# Altium integrated library TI Data Converters Analog to Digital Converter.IntLib: 2197 symbols (part 75 of 168)
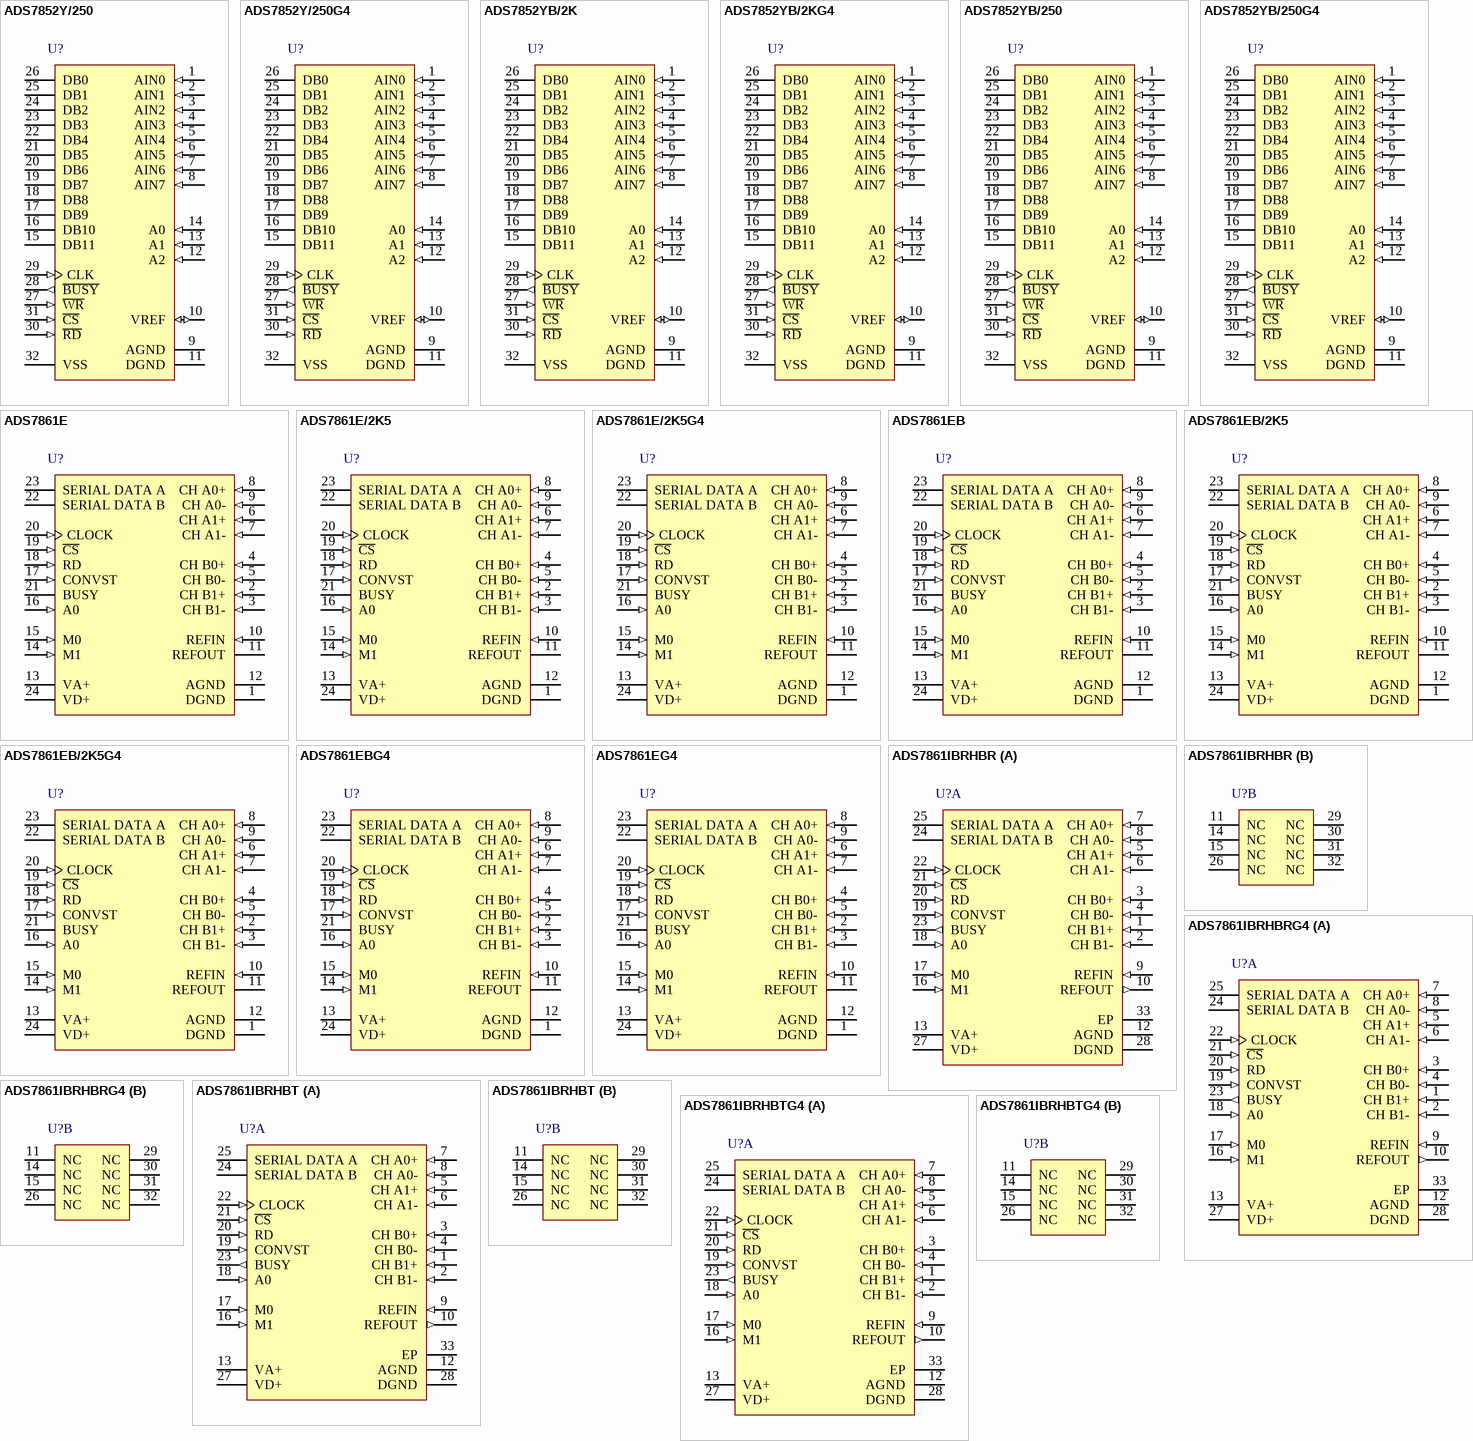
[diagram p200: symbols ADS7852Y/250 to ADS7861IBRHBTG4]

## ADS7861EB
designator U?
Dual, 500 kHz, 12-Bit, 4 Channel, Simultaneous Sampling ADC, -40 to 125 degC, 24-pin SOP (DBQ24), Green (RoHS & no Sb/Br); Manufacturer: Texas Instruments; PartNumber: ADS7861EB; # Input Channels: 4; Analog Voltage AV/DD(Max)(V): 5.25; Analog Voltage AV/DD(Min)(V): 4.75; Architecture: SAR; INL(Max)(+/-LSB): 1; Interface: Serial SPI; Resolution(Bits): 12; Sample Rate (max)(SPS): 500k; SFDR(dB): 75; SINAD(dB): 70; SubFamily: Precision ADC (<=10MSPS); DatasheetVersion: SBAS110D; PackageVersion: 4073301-4/H, 10/2008; PackageReference: DBQ24; PackageDescription: 24-Pin Plastic Small-Outline, Body 8.65 x 3.90 mm, Pitch 0.635 mm; Supplier 1: Digi-Key; Supplier Part Number 1: ADS7852Y/2K-ND; Supplier 2: Newark; Supplier Part Number 2: 74C7186; Supplier 3: Mouser; Supplier Part Number 3: 595-ADS7852Y/2K; Digital Supply(Max)(V): 5.25; Digital Supply(Min)(V): 4.75; Eco-Plan: Green (RoHS & no Sb/Br); Mounting Technology: Surface Mount; Code_JEDEC: MO-137; ComponentLink1Description: Manufacturer URL; ComponentLink1URL: http://www.ti.com/; ComponentLink2Description: Datasheet; ComponentLink2URL: http://www.ti.com/general/docs/lit/getliterature.tsp?genericPartNumber=ADS7861&fileType=pdf; ComponentLink3Description: Package Specification; ComponentLink3URL: http://www.ti.com/litv/pdf/mpds211a
footprint TI-DBQ24_N (SOP, 24-Leads, Body 8.65x6mm, Pitch 0.635mm, IPC Medium Density)
footprint TI-DBQ24_L (SOP, 24-Leads, Body 8.65x6mm, Pitch 0.635mm, IPC High Density)
footprint TI-DBQ24_M (SOP, 24-Leads, Body 8.65x6mm, Pitch 0.635mm, IPC Low Density)
pins: 1 DGND (power) "Digital Ground. Connect directly to analog ground (pin 12).", 2 CH B1+ (in) "Noninverting Input Channel B1", 3 CH B1- (in) "Inverting Input Channel B1", 4 CH B0+ (in) "Noninverting Input Channel B0", 5 CH B0- (in) "Inverting Input Channel B0", 6 CH A1+ (in) "Noninverting Input Channel A1", 7 CH A1- (in) "Inverting Input Channel A1", 8 CH A0+ (in) "Noninverting Input Channel A0", 9 CH A0- (in) "Inverting Input Channel A0", 10 REFIN (in) "Reference Input", 11 REFOUT (hiz) "2.5V Reference Output", 12 AGND (power) "Analog Ground. Connect directly to digital ground (pin 1).", 13 VA+ (power) "Analog Power Supply, +5VDC. Connect directly to digital power supply (pin 24). Decouple to analog ground with a 0.1uF ceramic capacitor and a 10uF tantalum capacitor.", 14 M1 (in) "Selects between the Serial Outputs. When M1 is LOW, both Serial Output A and Serial Output B are selected for data transfer. When M1 is HIGH, Serial output A is configured for both Channel A data and Channel B data; Serial (See Datasheet)", 15 M0 (in) "Selects between two-channel and four-channel operation. When M0 is LOW, two-channel operation is selected and operates in conjunction with A0. When A0 is HIGH, Channel A1 and Channel B1 are being converted. When A0 is LOW, (See Datasheet)", 16 A0 (in) "A0 operates in conjunction with M0. With M0 LOW and A0 HIGH, Channel A1 and Channel B1 are converted. With M0 LOW and A0 LOW, Channel A0 and Channel B0 are converted.", 17 CONVST (in) "Convert Start. When CONVST switches from LOW to HIGH, the device switches from the sample to hold mode, independent of the status of the external clock.", 18 RD (in) "Synchronization Pulse for the Serial Output.", 19 ~{CS} (in) "Chip Select. When LOW, the Serial Output A and Serial Output B outputs are active; when HIGH, the serial outputs are tri-stated.", 20 CLOCK (in) "An external CMOS-compatible clock can be applied to the CLOCK input to synchronize the conversion process to an external source. The CLOCK pin controls the sampling rate by the equation: CLOCK = 16 * fSAMPLE.", 21 BUSY (hiz) "BUSY goes HIGH during a conversion and returns LOW after the third LSB has been transmitted on either the Serial A or Serial B output pin.", 22 SERIAL DATA B (hiz) "The Serial Output data word is comprised of channel information and 12 bits of data. In operation, data is valid on the falling edge of DCLOCK for 16 edges after the rising edge of RD.", 23 SERIAL DATA A (hiz) "The Serial Output data word is comprised of channel information and 12 bits of data. In operation, data is valid on the falling edge of DCLOCK for 16 edges after the rising edge of RD. When M1 is HIGH, both Channel A data (See Datasheet)", 24 VD+ (power) "Digital Power Supply, +5VDC. Connect directly to pin 13. Must be =< +VA."

## ADS7861EB/2K5
designator U?
Dual, 500 kHz, 12-Bit, 4 Channel, Simultaneous Sampling ADC, -40 to 125 degC, 24-pin SOP (DBQ24), Green (RoHS & no Sb/Br); Manufacturer: Texas Instruments; PartNumber: ADS7861EB/2K5; # Input Channels: 4; Analog Voltage AV/DD(Max)(V): 5.25; Analog Voltage AV/DD(Min)(V): 4.75; Architecture: SAR; INL(Max)(+/-LSB): 1; Interface: Serial SPI; Resolution(Bits): 12; Sample Rate (max)(SPS): 500k; SFDR(dB): 75; SINAD(dB): 70; SubFamily: Precision ADC (<=10MSPS); DatasheetVersion: SBAS110D; PackageVersion: 4073301-4/H, 10/2008; PackageReference: DBQ24; PackageDescription: 24-Pin Plastic Small-Outline, Body 8.65 x 3.90 mm, Pitch 0.635 mm; Supplier 1: Digi-Key; Supplier Part Number 1: ADS7852Y/2KG4-ND; Supplier 2: Newark; Supplier Part Number 2: 73K7088; Supplier 3: Mouser; Supplier Part Number 3: 595-ADS7852Y/2KG4; Digital Supply(Max)(V): 5.25; Digital Supply(Min)(V): 4.75; Eco-Plan: Green (RoHS & no Sb/Br); Mounting Technology: Surface Mount; Code_JEDEC: MO-137; ComponentLink1Description: Manufacturer URL; ComponentLink1URL: http://www.ti.com/; ComponentLink2Description: Datasheet; ComponentLink2URL: http://www.ti.com/general/docs/lit/getliterature.tsp?genericPartNumber=ADS7861&fileType=pdf; ComponentLink3Description: Package Specification; ComponentLink3URL: http://www.ti.com/litv/pdf/mpds211a
footprint TI-DBQ24_N (SOP, 24-Leads, Body 8.65x6mm, Pitch 0.635mm, IPC Medium Density)
footprint TI-DBQ24_L (SOP, 24-Leads, Body 8.65x6mm, Pitch 0.635mm, IPC High Density)
footprint TI-DBQ24_M (SOP, 24-Leads, Body 8.65x6mm, Pitch 0.635mm, IPC Low Density)
pins: 1 DGND (power) "Digital Ground. Connect directly to analog ground (pin 12).", 2 CH B1+ (in) "Noninverting Input Channel B1", 3 CH B1- (in) "Inverting Input Channel B1", 4 CH B0+ (in) "Noninverting Input Channel B0", 5 CH B0- (in) "Inverting Input Channel B0", 6 CH A1+ (in) "Noninverting Input Channel A1", 7 CH A1- (in) "Inverting Input Channel A1", 8 CH A0+ (in) "Noninverting Input Channel A0", 9 CH A0- (in) "Inverting Input Channel A0", 10 REFIN (in) "Reference Input", 11 REFOUT (hiz) "2.5V Reference Output", 12 AGND (power) "Analog Ground. Connect directly to digital ground (pin 1).", 13 VA+ (power) "Analog Power Supply, +5VDC. Connect directly to digital power supply (pin 24). Decouple to analog ground with a 0.1uF ceramic capacitor and a 10uF tantalum capacitor.", 14 M1 (in) "Selects between the Serial Outputs. When M1 is LOW, both Serial Output A and Serial Output B are selected for data transfer. When M1 is HIGH, Serial output A is configured for both Channel A data and Channel B data; Serial (See Datasheet)", 15 M0 (in) "Selects between two-channel and four-channel operation. When M0 is LOW, two-channel operation is selected and operates in conjunction with A0. When A0 is HIGH, Channel A1 and Channel B1 are being converted. When A0 is LOW, (See Datasheet)", 16 A0 (in) "A0 operates in conjunction with M0. With M0 LOW and A0 HIGH, Channel A1 and Channel B1 are converted. With M0 LOW and A0 LOW, Channel A0 and Channel B0 are converted.", 17 CONVST (in) "Convert Start. When CONVST switches from LOW to HIGH, the device switches from the sample to hold mode, independent of the status of the external clock.", 18 RD (in) "Synchronization Pulse for the Serial Output.", 19 ~{CS} (in) "Chip Select. When LOW, the Serial Output A and Serial Output B outputs are active; when HIGH, the serial outputs are tri-stated.", 20 CLOCK (in) "An external CMOS-compatible clock can be applied to the CLOCK input to synchronize the conversion process to an external source. The CLOCK pin controls the sampling rate by the equation: CLOCK = 16 * fSAMPLE.", 21 BUSY (hiz) "BUSY goes HIGH during a conversion and returns LOW after the third LSB has been transmitted on either the Serial A or Serial B output pin.", 22 SERIAL DATA B (hiz) "The Serial Output data word is comprised of channel information and 12 bits of data. In operation, data is valid on the falling edge of DCLOCK for 16 edges after the rising edge of RD.", 23 SERIAL DATA A (hiz) "The Serial Output data word is comprised of channel information and 12 bits of data. In operation, data is valid on the falling edge of DCLOCK for 16 edges after the rising edge of RD. When M1 is HIGH, both Channel A data (See Datasheet)", 24 VD+ (power) "Digital Power Supply, +5VDC. Connect directly to pin 13. Must be =< +VA."

## ADS7861EB/2K5G4
designator U?
Dual, 500 kHz, 12-Bit, 4 Channel, Simultaneous Sampling ADC, -40 to 125 degC, 24-pin SOP (DBQ24), Green (RoHS & no Sb/Br); Manufacturer: Texas Instruments; PartNumber: ADS7861EB/2K5G4; # Input Channels: 4; Analog Voltage AV/DD(Max)(V): 5.25; Analog Voltage AV/DD(Min)(V): 4.75; Architecture: SAR; INL(Max)(+/-LSB): 1; Interface: Serial SPI; Resolution(Bits): 12; Sample Rate (max)(SPS): 500k; SFDR(dB): 75; SINAD(dB): 70; SubFamily: Precision ADC (<=10MSPS); DatasheetVersion: SBAS110D; PackageVersion: 4073301-4/H, 10/2008; PackageReference: DBQ24; PackageDescription: 24-Pin Plastic Small-Outline, Body 8.65 x 3.90 mm, Pitch 0.635 mm; Supplier 1: Digi-Key; Supplier Part Number 1: ADS7852YBTR-ND; Supplier 2: Digi-Key; Supplier Part Number 2: ADS7852YBCT-ND; Supplier 3: Digi-Key; Supplier Part Number 3: ADS7852YBDKR-ND; Supplier 4: Farnell; Supplier Part Number 4: 1295960; Supplier 5: Newark; Supplier Part Number 5: 74C7188; Supplier 6: Mouser; Supplier Part Number 6: 595-ADS7852YB/250; Digital Supply(Max)(V): 5.25; Digital Supply(Min)(V): 4.75; Eco-Plan: Green (RoHS & no Sb/Br); Mounting Technology: Surface Mount; Code_JEDEC: MO-137; ComponentLink1Description: Manufacturer URL; ComponentLink1URL: http://www.ti.com/; ComponentLink2Description: Datasheet; ComponentLink2URL: http://www.ti.com/general/docs/lit/getliterature.tsp?genericPartNumber=ADS7861&fileType=pdf; ComponentLink3Description: Package Specification; ComponentLink3URL: http://www.ti.com/litv/pdf/mpds211a
footprint TI-DBQ24_N (SOP, 24-Leads, Body 8.65x6mm, Pitch 0.635mm, IPC Medium Density)
footprint TI-DBQ24_L (SOP, 24-Leads, Body 8.65x6mm, Pitch 0.635mm, IPC High Density)
footprint TI-DBQ24_M (SOP, 24-Leads, Body 8.65x6mm, Pitch 0.635mm, IPC Low Density)
pins: 1 DGND (power) "Digital Ground. Connect directly to analog ground (pin 12).", 2 CH B1+ (in) "Noninverting Input Channel B1", 3 CH B1- (in) "Inverting Input Channel B1", 4 CH B0+ (in) "Noninverting Input Channel B0", 5 CH B0- (in) "Inverting Input Channel B0", 6 CH A1+ (in) "Noninverting Input Channel A1", 7 CH A1- (in) "Inverting Input Channel A1", 8 CH A0+ (in) "Noninverting Input Channel A0", 9 CH A0- (in) "Inverting Input Channel A0", 10 REFIN (in) "Reference Input", 11 REFOUT (hiz) "2.5V Reference Output", 12 AGND (power) "Analog Ground. Connect directly to digital ground (pin 1).", 13 VA+ (power) "Analog Power Supply, +5VDC. Connect directly to digital power supply (pin 24). Decouple to analog ground with a 0.1uF ceramic capacitor and a 10uF tantalum capacitor.", 14 M1 (in) "Selects between the Serial Outputs. When M1 is LOW, both Serial Output A and Serial Output B are selected for data transfer. When M1 is HIGH, Serial output A is configured for both Channel A data and Channel B data; Serial (See Datasheet)", 15 M0 (in) "Selects between two-channel and four-channel operation. When M0 is LOW, two-channel operation is selected and operates in conjunction with A0. When A0 is HIGH, Channel A1 and Channel B1 are being converted. When A0 is LOW, (See Datasheet)", 16 A0 (in) "A0 operates in conjunction with M0. With M0 LOW and A0 HIGH, Channel A1 and Channel B1 are converted. With M0 LOW and A0 LOW, Channel A0 and Channel B0 are converted.", 17 CONVST (in) "Convert Start. When CONVST switches from LOW to HIGH, the device switches from the sample to hold mode, independent of the status of the external clock.", 18 RD (in) "Synchronization Pulse for the Serial Output.", 19 ~{CS} (in) "Chip Select. When LOW, the Serial Output A and Serial Output B outputs are active; when HIGH, the serial outputs are tri-stated.", 20 CLOCK (in) "An external CMOS-compatible clock can be applied to the CLOCK input to synchronize the conversion process to an external source. The CLOCK pin controls the sampling rate by the equation: CLOCK = 16 * fSAMPLE.", 21 BUSY (hiz) "BUSY goes HIGH during a conversion and returns LOW after the third LSB has been transmitted on either the Serial A or Serial B output pin.", 22 SERIAL DATA B (hiz) "The Serial Output data word is comprised of channel information and 12 bits of data. In operation, data is valid on the falling edge of DCLOCK for 16 edges after the rising edge of RD.", 23 SERIAL DATA A (hiz) "The Serial Output data word is comprised of channel information and 12 bits of data. In operation, data is valid on the falling edge of DCLOCK for 16 edges after the rising edge of RD. When M1 is HIGH, both Channel A data (See Datasheet)", 24 VD+ (power) "Digital Power Supply, +5VDC. Connect directly to pin 13. Must be =< +VA."

## ADS7861EBG4
designator U?
Dual, 500 kHz, 12-Bit, 4 Channel, Simultaneous Sampling ADC, -40 to 125 degC, 24-pin SOP (DBQ24), Green (RoHS & no Sb/Br); Manufacturer: Texas Instruments; PartNumber: ADS7861EBG4; # Input Channels: 4; Analog Voltage AV/DD(Max)(V): 5.25; Analog Voltage AV/DD(Min)(V): 4.75; Architecture: SAR; INL(Max)(+/-LSB): 1; Interface: Serial SPI; Resolution(Bits): 12; Sample Rate (max)(SPS): 500k; SFDR(dB): 75; SINAD(dB): 70; SubFamily: Precision ADC (<=10MSPS); DatasheetVersion: SBAS110D; PackageVersion: 4073301-4/H, 10/2008; PackageReference: DBQ24; PackageDescription: 24-Pin Plastic Small-Outline, Body 8.65 x 3.90 mm, Pitch 0.635 mm; Supplier 1: Digi-Key; Supplier Part Number 1: ADS7852YB/250G4-ND; Supplier 2: Mouser; Supplier Part Number 2: 595-ADS7852YB/250G4; Digital Supply(Max)(V): 5.25; Digital Supply(Min)(V): 4.75; Eco-Plan: Green (RoHS & no Sb/Br); Mounting Technology: Surface Mount; Code_JEDEC: MO-137; ComponentLink1Description: Manufacturer URL; ComponentLink1URL: http://www.ti.com/; ComponentLink2Description: Datasheet; ComponentLink2URL: http://www.ti.com/general/docs/lit/getliterature.tsp?genericPartNumber=ADS7861&fileType=pdf; ComponentLink3Description: Package Specification; ComponentLink3URL: http://www.ti.com/litv/pdf/mpds211a
footprint TI-DBQ24_N (SOP, 24-Leads, Body 8.65x6mm, Pitch 0.635mm, IPC Medium Density)
footprint TI-DBQ24_L (SOP, 24-Leads, Body 8.65x6mm, Pitch 0.635mm, IPC High Density)
footprint TI-DBQ24_M (SOP, 24-Leads, Body 8.65x6mm, Pitch 0.635mm, IPC Low Density)
pins: 1 DGND (power) "Digital Ground. Connect directly to analog ground (pin 12).", 2 CH B1+ (in) "Noninverting Input Channel B1", 3 CH B1- (in) "Inverting Input Channel B1", 4 CH B0+ (in) "Noninverting Input Channel B0", 5 CH B0- (in) "Inverting Input Channel B0", 6 CH A1+ (in) "Noninverting Input Channel A1", 7 CH A1- (in) "Inverting Input Channel A1", 8 CH A0+ (in) "Noninverting Input Channel A0", 9 CH A0- (in) "Inverting Input Channel A0", 10 REFIN (in) "Reference Input", 11 REFOUT (hiz) "2.5V Reference Output", 12 AGND (power) "Analog Ground. Connect directly to digital ground (pin 1).", 13 VA+ (power) "Analog Power Supply, +5VDC. Connect directly to digital power supply (pin 24). Decouple to analog ground with a 0.1uF ceramic capacitor and a 10uF tantalum capacitor.", 14 M1 (in) "Selects between the Serial Outputs. When M1 is LOW, both Serial Output A and Serial Output B are selected for data transfer. When M1 is HIGH, Serial output A is configured for both Channel A data and Channel B data; Serial (See Datasheet)", 15 M0 (in) "Selects between two-channel and four-channel operation. When M0 is LOW, two-channel operation is selected and operates in conjunction with A0. When A0 is HIGH, Channel A1 and Channel B1 are being converted. When A0 is LOW, (See Datasheet)", 16 A0 (in) "A0 operates in conjunction with M0. With M0 LOW and A0 HIGH, Channel A1 and Channel B1 are converted. With M0 LOW and A0 LOW, Channel A0 and Channel B0 are converted.", 17 CONVST (in) "Convert Start. When CONVST switches from LOW to HIGH, the device switches from the sample to hold mode, independent of the status of the external clock.", 18 RD (in) "Synchronization Pulse for the Serial Output.", 19 ~{CS} (in) "Chip Select. When LOW, the Serial Output A and Serial Output B outputs are active; when HIGH, the serial outputs are tri-stated.", 20 CLOCK (in) "An external CMOS-compatible clock can be applied to the CLOCK input to synchronize the conversion process to an external source. The CLOCK pin controls the sampling rate by the equation: CLOCK = 16 * fSAMPLE.", 21 BUSY (hiz) "BUSY goes HIGH during a conversion and returns LOW after the third LSB has been transmitted on either the Serial A or Serial B output pin.", 22 SERIAL DATA B (hiz) "The Serial Output data word is comprised of channel information and 12 bits of data. In operation, data is valid on the falling edge of DCLOCK for 16 edges after the rising edge of RD.", 23 SERIAL DATA A (hiz) "The Serial Output data word is comprised of channel information and 12 bits of data. In operation, data is valid on the falling edge of DCLOCK for 16 edges after the rising edge of RD. When M1 is HIGH, both Channel A data (See Datasheet)", 24 VD+ (power) "Digital Power Supply, +5VDC. Connect directly to pin 13. Must be =< +VA."

## ADS7861EG4
designator U?
Dual, 500 kHz, 12-Bit, 4 Channel, Simultaneous Sampling ADC, -40 to 125 degC, 24-pin SOP (DBQ24), Green (RoHS & no Sb/Br); Manufacturer: Texas Instruments; PartNumber: ADS7861EG4; # Input Channels: 4; Analog Voltage AV/DD(Max)(V): 5.25; Analog Voltage AV/DD(Min)(V): 4.75; Architecture: SAR; INL(Max)(+/-LSB): 2; Interface: Serial SPI; Resolution(Bits): 12; Sample Rate (max)(SPS): 500k; SFDR(dB): 71; SINAD(dB): 70; SubFamily: Precision ADC (<=10MSPS); DatasheetVersion: SBAS110D; PackageVersion: 4073301-4/H, 10/2008; PackageReference: DBQ24; PackageDescription: 24-Pin Plastic Small-Outline, Body 8.65 x 3.90 mm, Pitch 0.635 mm; Supplier 1: Digi-Key; Supplier Part Number 1: ADS7852YB/2K-ND; Supplier 2: Mouser; Supplier Part Number 2: 595-ADS7852YB/2K; Digital Supply(Max)(V): 5.25; Digital Supply(Min)(V): 4.75; Eco-Plan: Green (RoHS & no Sb/Br); Mounting Technology: Surface Mount; Code_JEDEC: MO-137; ComponentLink1Description: Manufacturer URL; ComponentLink1URL: http://www.ti.com/; ComponentLink2Description: Datasheet; ComponentLink2URL: http://www.ti.com/general/docs/lit/getliterature.tsp?genericPartNumber=ADS7861&fileType=pdf; ComponentLink3Description: Package Specification; ComponentLink3URL: http://www.ti.com/litv/pdf/mpds211a
footprint TI-DBQ24_N (SOP, 24-Leads, Body 8.65x6mm, Pitch 0.635mm, IPC Medium Density)
footprint TI-DBQ24_L (SOP, 24-Leads, Body 8.65x6mm, Pitch 0.635mm, IPC High Density)
footprint TI-DBQ24_M (SOP, 24-Leads, Body 8.65x6mm, Pitch 0.635mm, IPC Low Density)
pins: 1 DGND (power) "Digital Ground. Connect directly to analog ground (pin 12).", 2 CH B1+ (in) "Noninverting Input Channel B1", 3 CH B1- (in) "Inverting Input Channel B1", 4 CH B0+ (in) "Noninverting Input Channel B0", 5 CH B0- (in) "Inverting Input Channel B0", 6 CH A1+ (in) "Noninverting Input Channel A1", 7 CH A1- (in) "Inverting Input Channel A1", 8 CH A0+ (in) "Noninverting Input Channel A0", 9 CH A0- (in) "Inverting Input Channel A0", 10 REFIN (in) "Reference Input", 11 REFOUT (hiz) "2.5V Reference Output", 12 AGND (power) "Analog Ground. Connect directly to digital ground (pin 1).", 13 VA+ (power) "Analog Power Supply, +5VDC. Connect directly to digital power supply (pin 24). Decouple to analog ground with a 0.1uF ceramic capacitor and a 10uF tantalum capacitor.", 14 M1 (in) "Selects between the Serial Outputs. When M1 is LOW, both Serial Output A and Serial Output B are selected for data transfer. When M1 is HIGH, Serial output A is configured for both Channel A data and Channel B data; Serial (See Datasheet)", 15 M0 (in) "Selects between two-channel and four-channel operation. When M0 is LOW, two-channel operation is selected and operates in conjunction with A0. When A0 is HIGH, Channel A1 and Channel B1 are being converted. When A0 is LOW, (See Datasheet)", 16 A0 (in) "A0 operates in conjunction with M0. With M0 LOW and A0 HIGH, Channel A1 and Channel B1 are converted. With M0 LOW and A0 LOW, Channel A0 and Channel B0 are converted.", 17 CONVST (in) "Convert Start. When CONVST switches from LOW to HIGH, the device switches from the sample to hold mode, independent of the status of the external clock.", 18 RD (in) "Synchronization Pulse for the Serial Output.", 19 ~{CS} (in) "Chip Select. When LOW, the Serial Output A and Serial Output B outputs are active; when HIGH, the serial outputs are tri-stated.", 20 CLOCK (in) "An external CMOS-compatible clock can be applied to the CLOCK input to synchronize the conversion process to an external source. The CLOCK pin controls the sampling rate by the equation: CLOCK = 16 * fSAMPLE.", 21 BUSY (hiz) "BUSY goes HIGH during a conversion and returns LOW after the third LSB has been transmitted on either the Serial A or Serial B output pin.", 22 SERIAL DATA B (hiz) "The Serial Output data word is comprised of channel information and 12 bits of data. In operation, data is valid on the falling edge of DCLOCK for 16 edges after the rising edge of RD.", 23 SERIAL DATA A (hiz) "The Serial Output data word is comprised of channel information and 12 bits of data. In operation, data is valid on the falling edge of DCLOCK for 16 edges after the rising edge of RD. When M1 is HIGH, both Channel A data (See Datasheet)", 24 VD+ (power) "Digital Power Supply, +5VDC. Connect directly to pin 13. Must be =< +VA."

## ADS7861IBRHBR
designator U?
Dual, 500 kHz, 12-Bit, 4 Channel, Simultaneous Sampling ADC, -40 to 125 degC, 32-pin QFN (RHB32), Green (RoHS & no Sb/Br); Manufacturer: Texas Instruments; PartNumber: ADS7861IBRHBR; # Input Channels: 4; Analog Voltage AV/DD(Max)(V): 5.25; Analog Voltage AV/DD(Min)(V): 4.75; Architecture: SAR; INL(Max)(+/-LSB): 1; Interface: Serial SPI; Resolution(Bits): 12; Sample Rate (max)(SPS): 500k; SFDR(dB): 75; SINAD(dB): 70; SubFamily: Precision ADC (<=10MSPS); DatasheetVersion: SBAS110D; PackageVersion: 4204326/D, 06/2011; PackageReference: RHB32-3450X3450TP; PackageDescription: 32-Pin Plastic Flat Pack, Body 5 x 5 mm, Pitch 0.5 mm; Supplier 1: Digi-Key; Supplier Part Number 1: ADS7852YB/2KG4-ND; Supplier 2: Mouser; Supplier Part Number 2: 595-ADS7852YB/2KG4; Digital Supply(Max)(V): 5.25; Digital Supply(Min)(V): 4.75; Eco-Plan: Green (RoHS & no Sb/Br); Mounting Technology: Surface Mount; Code_JEDEC: MO-220; ComponentLink1Description: Manufacturer URL; ComponentLink1URL: http://www.ti.com/; ComponentLink2Description: Datasheet; ComponentLink2URL: http://www.ti.com/general/docs/lit/getliterature.tsp?genericPartNumber=ADS7861&fileType=pdf; ComponentLink3Description: Package Specification; ComponentLink3URL: http://www.ti.com/lit/ml/mpqf130c/mpqf130c.pdf
footprint TI-RHB32-3450X3450TP_V (QFN, 32-Leads, Body 5x5mm, Pitch 0.5mm, Thermal Pad 3.45x3.45mm)
part A pins: 1 CH B1+ (in) "Noninverting Input Channel B1", 2 CH B1- (in) "Inverting Input Channel B1", 3 CH B0+ (in) "Noninverting Input Channel B0", 4 CH B0- (in) "Inverting Input Channel B0", 5 CH A1+ (in) "Noninverting Input Channel A1", 6 CH A1- (in) "Inverting Input Channel A1", 7 CH A0+ (in) "Noninverting Input Channel A0", 8 CH A0- (in) "Inverting Input Channel A0", 9 REFIN (in) "Reference Input", 10 REFOUT (out) "2.5V Reference Output", 12 AGND (power) "Analog Ground. Connect directly to digital ground (pin 1).", 13 VA+ (power) "Analog Power Supply, +5VDC. Decouple to analog ground with a 0.1uF ceramic capacitor and a 0.1uF tantalum capacitor.", 16 M1 (in) "Selects between the Serial Outputs. When M1 is LOW, both Serial Output A and Serial Output B are selected for data transfer. When M1 is HIGH, Serial output A is configured for both Channel A data and Channel B data; Serial (See Datasheet)", 17 M0 (in) "Selects between two-channel and four-channel operation. When M0 is LOW, two-channel operation is selected and operates in conjunction with A0. When A0 is HIGH, Channel A1 and Channel B1 are being converted. When A0 is LOW, (See Datasheet)", 18 A0 (in) "A0 operates in conjunction with M0. With M0 LOW and A0 HIGH, Channel A1 and Channel B1 are converted. With M0 LOW and A0 LOW, Channel A0 and Channel B0 are converted.", 19 CONVST (in) "Convert Start. When CONVST switches from LOW to HIGH, the device switches from the sample to hold mode, independent of the status of the external clock.", 20 RD (in) "Synchronization Pulse for the Serial Output.", 21 ~{CS} (in) "Chip Select. When LOW, the Serial Output A and Serial Output B outputs are active; when HIGH, the serial outputs are tri-stated.", 22 CLOCK (in) "An external CMOS-compatible clock can be applied to the CLOCK input to synchronize the conversion process to an external source. The CLOCK pin controls the sampling rate by the equation: CLOCK = 16 • fSAMPLE.", 23 BUSY (out) "BUSY goes HIGH during a conversion and returns LOW after the third LSB has been transmitted on either the Serial A or Serial B output pin.", 24 SERIAL DATA B (hiz) "The Serial Output data word is comprised of channel information and 12 bits of data. In operation, data is valid on the falling edge of DCLOCK for 16 edges after the rising edge of RD.", 25 SERIAL DATA A (hiz) "The Serial Output data word is comprised of channel information and 12 bits of data. In operation, data is valid on the falling edge of DCLOCK for 16 edges after the rising edge of RD. When M1 is HIGH, both Channel A data (See Datasheet)", 27 VD+ (power) "Digital Power Supply, +5VDC. Connect directly to pin 13. Must be =< +VA.", 28 DGND (power) "Digital I/O Ground. Connect directly to analog ground (pin 12).", 33 EP (power) "The thermal pad is internally connected to the substrate. This pad can be connected to the analog ground or left floating. Keep the thermal pad separate from the digital ground, if possible."
part B pins: 11 NC "Not Connected", 14 NC "Not Connected", 15 NC "Not Connected", 26 NC "Not Connected", 29 NC "Not Connected", 30 NC "Not Connected", 31 NC "Not Connected", 32 NC "Not Connected"

## ADS7861IBRHBRG4
designator U?
Dual, 500 kHz, 12-Bit, 4 Channel, Simultaneous Sampling ADC, -40 to 125 degC, 32-pin QFN (RHB32), Green (RoHS & no Sb/Br); Manufacturer: Texas Instruments; PartNumber: ADS7861IBRHBRG4; # Input Channels: 4; Analog Voltage AV/DD(Max)(V): 5.25; Analog Voltage AV/DD(Min)(V): 4.75; Architecture: SAR; INL(Max)(+/-LSB): 1; Interface: Serial SPI; Resolution(Bits): 12; Sample Rate (max)(SPS): 500k; SFDR(dB): 75; SINAD(dB): 70; SubFamily: Precision ADC (<=10MSPS); DatasheetVersion: SBAS110D; PackageVersion: 4204326/D, 06/2011; PackageReference: RHB32-3450X3450TP; PackageDescription: 32-Pin Plastic Flat Pack, Body 5 x 5 mm, Pitch 0.5 mm; Supplier 1: Digi-Key; Supplier Part Number 1: ADS7861E-ND; Supplier 2: Farnell; Supplier Part Number 2: 1214350; Supplier 3: Newark; Supplier Part Number 3: 74C7189; Supplier 4: Mouser; Supplier Part Number 4: 595-ADS7861E; Digital Supply(Max)(V): 5.25; Digital Supply(Min)(V): 4.75; Eco-Plan: Green (RoHS & no Sb/Br); Mounting Technology: Surface Mount; Code_JEDEC: MO-220; ComponentLink1Description: Manufacturer URL; ComponentLink1URL: http://www.ti.com/; ComponentLink2Description: Datasheet; ComponentLink2URL: http://www.ti.com/general/docs/lit/getliterature.tsp?genericPartNumber=ADS7861&fileType=pdf; ComponentLink3Description: Package Specification; ComponentLink3URL: http://www.ti.com/lit/ml/mpqf130c/mpqf130c.pdf
footprint TI-RHB32-3450X3450TP_V (QFN, 32-Leads, Body 5x5mm, Pitch 0.5mm, Thermal Pad 3.45x3.45mm)
part A pins: 1 CH B1+ (in) "Noninverting Input Channel B1", 2 CH B1- (in) "Inverting Input Channel B1", 3 CH B0+ (in) "Noninverting Input Channel B0", 4 CH B0- (in) "Inverting Input Channel B0", 5 CH A1+ (in) "Noninverting Input Channel A1", 6 CH A1- (in) "Inverting Input Channel A1", 7 CH A0+ (in) "Noninverting Input Channel A0", 8 CH A0- (in) "Inverting Input Channel A0", 9 REFIN (in) "Reference Input", 10 REFOUT (out) "2.5V Reference Output", 12 AGND (power) "Analog Ground. Connect directly to digital ground (pin 1).", 13 VA+ (power) "Analog Power Supply, +5VDC. Decouple to analog ground with a 0.1uF ceramic capacitor and a 0.1uF tantalum capacitor.", 16 M1 (in) "Selects between the Serial Outputs. When M1 is LOW, both Serial Output A and Serial Output B are selected for data transfer. When M1 is HIGH, Serial output A is configured for both Channel A data and Channel B data; Serial (See Datasheet)", 17 M0 (in) "Selects between two-channel and four-channel operation. When M0 is LOW, two-channel operation is selected and operates in conjunction with A0. When A0 is HIGH, Channel A1 and Channel B1 are being converted. When A0 is LOW, (See Datasheet)", 18 A0 (in) "A0 operates in conjunction with M0. With M0 LOW and A0 HIGH, Channel A1 and Channel B1 are converted. With M0 LOW and A0 LOW, Channel A0 and Channel B0 are converted.", 19 CONVST (in) "Convert Start. When CONVST switches from LOW to HIGH, the device switches from the sample to hold mode, independent of the status of the external clock.", 20 RD (in) "Synchronization Pulse for the Serial Output.", 21 ~{CS} (in) "Chip Select. When LOW, the Serial Output A and Serial Output B outputs are active; when HIGH, the serial outputs are tri-stated.", 22 CLOCK (in) "An external CMOS-compatible clock can be applied to the CLOCK input to synchronize the conversion process to an external source. The CLOCK pin controls the sampling rate by the equation: CLOCK = 16 • fSAMPLE.", 23 BUSY (out) "BUSY goes HIGH during a conversion and returns LOW after the third LSB has been transmitted on either the Serial A or Serial B output pin.", 24 SERIAL DATA B (hiz) "The Serial Output data word is comprised of channel information and 12 bits of data. In operation, data is valid on the falling edge of DCLOCK for 16 edges after the rising edge of RD.", 25 SERIAL DATA A (hiz) "The Serial Output data word is comprised of channel information and 12 bits of data. In operation, data is valid on the falling edge of DCLOCK for 16 edges after the rising edge of RD. When M1 is HIGH, both Channel A data (See Datasheet)", 27 VD+ (power) "Digital Power Supply, +5VDC. Connect directly to pin 13. Must be =< +VA.", 28 DGND (power) "Digital I/O Ground. Connect directly to analog ground (pin 12).", 33 EP (power) "The thermal pad is internally connected to the substrate. This pad can be connected to the analog ground or left floating. Keep the thermal pad separate from the digital ground, if possible."
part B pins: 11 NC "Not Connected", 14 NC "Not Connected", 15 NC "Not Connected", 26 NC "Not Connected", 29 NC "Not Connected", 30 NC "Not Connected", 31 NC "Not Connected", 32 NC "Not Connected"

## ADS7861IBRHBT
designator U?
Dual, 500 kHz, 12-Bit, 4 Channel, Simultaneous Sampling ADC, -40 to 125 degC, 32-pin QFN (RHB32), Green (RoHS & no Sb/Br); Manufacturer: Texas Instruments; PartNumber: ADS7861IBRHBT; # Input Channels: 4; Analog Voltage AV/DD(Max)(V): 5.25; Analog Voltage AV/DD(Min)(V): 4.75; Architecture: SAR; INL(Max)(+/-LSB): 1; Interface: Serial SPI; Resolution(Bits): 12; Sample Rate (max)(SPS): 500k; SFDR(dB): 75; SINAD(dB): 70; SubFamily: Precision ADC (<=10MSPS); DatasheetVersion: SBAS110D; PackageVersion: 4204326/D, 06/2011; PackageReference: RHB32-3450X3450TP; PackageDescription: 32-Pin Plastic Flat Pack, Body 5 x 5 mm, Pitch 0.5 mm; Supplier 1: Digi-Key; Supplier Part Number 1: 296-25904-2-ND; Supplier 2: Digi-Key; Supplier Part Number 2: 296-25904-1-ND; Supplier 3: Digi-Key; Supplier Part Number 3: 296-25904-6-ND; Supplier 4: Mouser; Supplier Part Number 4: 595-ADS7861E/2K5; Digital Supply(Max)(V): 5.25; Digital Supply(Min)(V): 4.75; Eco-Plan: Green (RoHS & no Sb/Br); Mounting Technology: Surface Mount; Code_JEDEC: MO-220; ComponentLink1Description: Manufacturer URL; ComponentLink1URL: http://www.ti.com/; ComponentLink2Description: Datasheet; ComponentLink2URL: http://www.ti.com/general/docs/lit/getliterature.tsp?genericPartNumber=ADS7861&fileType=pdf; ComponentLink3Description: Package Specification; ComponentLink3URL: http://www.ti.com/lit/ml/mpqf130c/mpqf130c.pdf
footprint TI-RHB32-3450X3450TP_V (QFN, 32-Leads, Body 5x5mm, Pitch 0.5mm, Thermal Pad 3.45x3.45mm)
part A pins: 1 CH B1+ (in) "Noninverting Input Channel B1", 2 CH B1- (in) "Inverting Input Channel B1", 3 CH B0+ (in) "Noninverting Input Channel B0", 4 CH B0- (in) "Inverting Input Channel B0", 5 CH A1+ (in) "Noninverting Input Channel A1", 6 CH A1- (in) "Inverting Input Channel A1", 7 CH A0+ (in) "Noninverting Input Channel A0", 8 CH A0- (in) "Inverting Input Channel A0", 9 REFIN (in) "Reference Input", 10 REFOUT (out) "2.5V Reference Output", 12 AGND (power) "Analog Ground. Connect directly to digital ground (pin 1).", 13 VA+ (power) "Analog Power Supply, +5VDC. Decouple to analog ground with a 0.1uF ceramic capacitor and a 0.1uF tantalum capacitor.", 16 M1 (in) "Selects between the Serial Outputs. When M1 is LOW, both Serial Output A and Serial Output B are selected for data transfer. When M1 is HIGH, Serial output A is configured for both Channel A data and Channel B data; Serial (See Datasheet)", 17 M0 (in) "Selects between two-channel and four-channel operation. When M0 is LOW, two-channel operation is selected and operates in conjunction with A0. When A0 is HIGH, Channel A1 and Channel B1 are being converted. When A0 is LOW, (See Datasheet)", 18 A0 (in) "A0 operates in conjunction with M0. With M0 LOW and A0 HIGH, Channel A1 and Channel B1 are converted. With M0 LOW and A0 LOW, Channel A0 and Channel B0 are converted.", 19 CONVST (in) "Convert Start. When CONVST switches from LOW to HIGH, the device switches from the sample to hold mode, independent of the status of the external clock.", 20 RD (in) "Synchronization Pulse for the Serial Output.", 21 ~{CS} (in) "Chip Select. When LOW, the Serial Output A and Serial Output B outputs are active; when HIGH, the serial outputs are tri-stated.", 22 CLOCK (in) "An external CMOS-compatible clock can be applied to the CLOCK input to synchronize the conversion process to an external source. The CLOCK pin controls the sampling rate by the equation: CLOCK = 16 • fSAMPLE.", 23 BUSY (out) "BUSY goes HIGH during a conversion and returns LOW after the third LSB has been transmitted on either the Serial A or Serial B output pin.", 24 SERIAL DATA B (hiz) "The Serial Output data word is comprised of channel information and 12 bits of data. In operation, data is valid on the falling edge of DCLOCK for 16 edges after the rising edge of RD.", 25 SERIAL DATA A (hiz) "The Serial Output data word is comprised of channel information and 12 bits of data. In operation, data is valid on the falling edge of DCLOCK for 16 edges after the rising edge of RD. When M1 is HIGH, both Channel A data (See Datasheet)", 27 VD+ (power) "Digital Power Supply, +5VDC. Connect directly to pin 13. Must be =< +VA.", 28 DGND (power) "Digital I/O Ground. Connect directly to analog ground (pin 12).", 33 EP (power) "The thermal pad is internally connected to the substrate. This pad can be connected to the analog ground or left floating. Keep the thermal pad separate from the digital ground, if possible."
part B pins: 11 NC "Not Connected", 14 NC "Not Connected", 15 NC "Not Connected", 26 NC "Not Connected", 29 NC "Not Connected", 30 NC "Not Connected", 31 NC "Not Connected", 32 NC "Not Connected"

## ADS7861IBRHBTG4
designator U?
Dual, 500 kHz, 12-Bit, 4 Channel, Simultaneous Sampling ADC, -40 to 125 degC, 32-pin QFN (RHB32), Green (RoHS & no Sb/Br); Manufacturer: Texas Instruments; PartNumber: ADS7861IBRHBTG4; # Input Channels: 4; Analog Voltage AV/DD(Max)(V): 5.25; Analog Voltage AV/DD(Min)(V): 4.75; Architecture: SAR; INL(Max)(+/-LSB): 1; Interface: Serial SPI; Resolution(Bits): 12; Sample Rate (max)(SPS): 500k; SFDR(dB): 75; SINAD(dB): 70; SubFamily: Precision ADC (<=10MSPS); DatasheetVersion: SBAS110D; PackageVersion: 4204326/D, 06/2011; PackageReference: RHB32-3450X3450TP; PackageDescription: 32-Pin Plastic Flat Pack, Body 5 x 5 mm, Pitch 0.5 mm; Supplier 1: Digi-Key; Supplier Part Number 1: ADS7861E/2K5G4-ND; Supplier 2: Mouser; Supplier Part Number 2: 595-ADS7861E/2K5G4; Digital Supply(Max)(V): 5.25; Digital Supply(Min)(V): 4.75; Eco-Plan: Green (RoHS & no Sb/Br); Mounting Technology: Surface Mount; Code_JEDEC: MO-220; ComponentLink1Description: Manufacturer URL; ComponentLink1URL: http://www.ti.com/; ComponentLink2Description: Datasheet; ComponentLink2URL: http://www.ti.com/general/docs/lit/getliterature.tsp?genericPartNumber=ADS7861&fileType=pdf; ComponentLink3Description: Package Specification; ComponentLink3URL: http://www.ti.com/lit/ml/mpqf130c/mpqf130c.pdf
footprint TI-RHB32-3450X3450TP_V (QFN, 32-Leads, Body 5x5mm, Pitch 0.5mm, Thermal Pad 3.45x3.45mm)
part A pins: 1 CH B1+ (in) "Noninverting Input Channel B1", 2 CH B1- (in) "Inverting Input Channel B1", 3 CH B0+ (in) "Noninverting Input Channel B0", 4 CH B0- (in) "Inverting Input Channel B0", 5 CH A1+ (in) "Noninverting Input Channel A1", 6 CH A1- (in) "Inverting Input Channel A1", 7 CH A0+ (in) "Noninverting Input Channel A0", 8 CH A0- (in) "Inverting Input Channel A0", 9 REFIN (in) "Reference Input", 10 REFOUT (out) "2.5V Reference Output", 12 AGND (power) "Analog Ground. Connect directly to digital ground (pin 1).", 13 VA+ (power) "Analog Power Supply, +5VDC. Decouple to analog ground with a 0.1uF ceramic capacitor and a 0.1uF tantalum capacitor.", 16 M1 (in) "Selects between the Serial Outputs. When M1 is LOW, both Serial Output A and Serial Output B are selected for data transfer. When M1 is HIGH, Serial output A is configured for both Channel A data and Channel B data; Serial (See Datasheet)", 17 M0 (in) "Selects between two-channel and four-channel operation. When M0 is LOW, two-channel operation is selected and operates in conjunction with A0. When A0 is HIGH, Channel A1 and Channel B1 are being converted. When A0 is LOW, (See Datasheet)", 18 A0 (in) "A0 operates in conjunction with M0. With M0 LOW and A0 HIGH, Channel A1 and Channel B1 are converted. With M0 LOW and A0 LOW, Channel A0 and Channel B0 are converted.", 19 CONVST (in) "Convert Start. When CONVST switches from LOW to HIGH, the device switches from the sample to hold mode, independent of the status of the external clock.", 20 RD (in) "Synchronization Pulse for the Serial Output.", 21 ~{CS} (in) "Chip Select. When LOW, the Serial Output A and Serial Output B outputs are active; when HIGH, the serial outputs are tri-stated.", 22 CLOCK (in) "An external CMOS-compatible clock can be applied to the CLOCK input to synchronize the conversion process to an external source. The CLOCK pin controls the sampling rate by the equation: CLOCK = 16 • fSAMPLE.", 23 BUSY (out) "BUSY goes HIGH during a conversion and returns LOW after the third LSB has been transmitted on either the Serial A or Serial B output pin.", 24 SERIAL DATA B (hiz) "The Serial Output data word is comprised of channel information and 12 bits of data. In operation, data is valid on the falling edge of DCLOCK for 16 edges after the rising edge of RD.", 25 SERIAL DATA A (hiz) "The Serial Output data word is comprised of channel information and 12 bits of data. In operation, data is valid on the falling edge of DCLOCK for 16 edges after the rising edge of RD. When M1 is HIGH, both Channel A data (See Datasheet)", 27 VD+ (power) "Digital Power Supply, +5VDC. Connect directly to pin 13. Must be =< +VA.", 28 DGND (power) "Digital I/O Ground. Connect directly to analog ground (pin 12).", 33 EP (power) "The thermal pad is internally connected to the substrate. This pad can be connected to the analog ground or left floating. Keep the thermal pad separate from the digital ground, if possible."
part B pins: 11 NC "Not Connected", 14 NC "Not Connected", 15 NC "Not Connected", 26 NC "Not Connected", 29 NC "Not Connected", 30 NC "Not Connected", 31 NC "Not Connected", 32 NC "Not Connected"

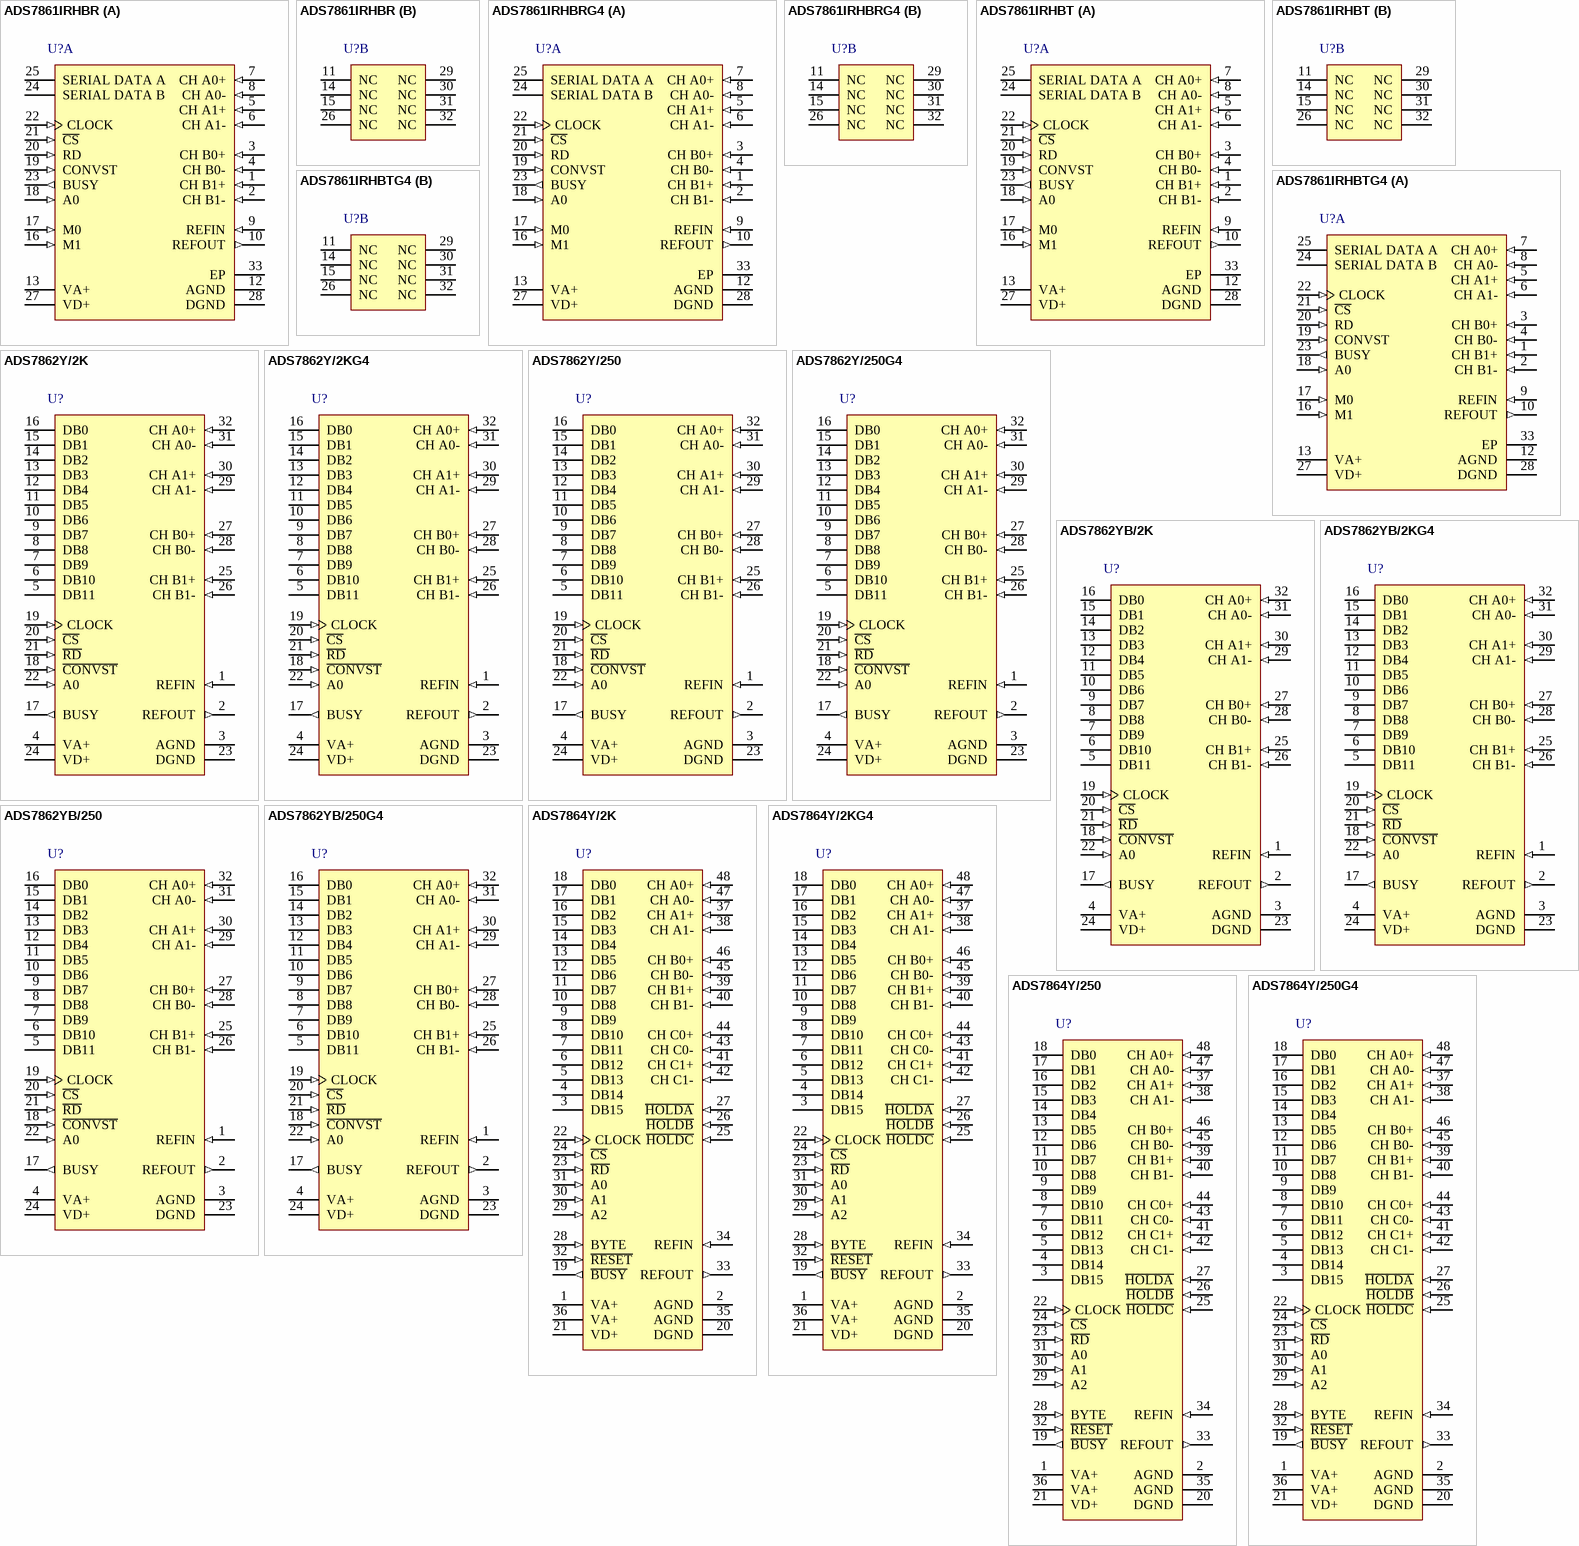
[diagram p67: symbols ADS7861IRHBR to ADS7864Y/250G4]

## ADS7861IRHBR
designator U?
Dual, 500 kHz, 12-Bit, 4 Channel, Simultaneous Sampling ADC, -40 to 125 degC, 32-pin QFN (RHB32), Green (RoHS & no Sb/Br); Manufacturer: Texas Instruments; PartNumber: ADS7861IRHBR; # Input Channels: 4; Analog Voltage AV/DD(Max)(V): 5.25; Analog Voltage AV/DD(Min)(V): 4.75; Architecture: SAR; INL(Max)(+/-LSB): 2; Interface: Serial SPI; Resolution(Bits): 12; Sample Rate (max)(SPS): 500k; SFDR(dB): 71; SINAD(dB): 70; SubFamily: Precision ADC (<=10MSPS); DatasheetVersion: SBAS110D; PackageVersion: 4204326/D, 06/2011; PackageReference: RHB32-3450X3450TP; PackageDescription: 32-Pin Plastic Flat Pack, Body 5 x 5 mm, Pitch 0.5 mm; Supplier 1: Digi-Key; Supplier Part Number 1: ADS7861EB-ND; Supplier 2: Newark; Supplier Part Number 2: 35C1563; Supplier 3: Mouser; Supplier Part Number 3: 595-ADS7861EB; Digital Supply(Max)(V): 5.25; Digital Supply(Min)(V): 4.75; Eco-Plan: Green (RoHS & no Sb/Br); Mounting Technology: Surface Mount; Code_JEDEC: MO-220; ComponentLink1Description: Manufacturer URL; ComponentLink1URL: http://www.ti.com/; ComponentLink2Description: Datasheet; ComponentLink2URL: http://www.ti.com/general/docs/lit/getliterature.tsp?genericPartNumber=ADS7861&fileType=pdf; ComponentLink3Description: Package Specification; ComponentLink3URL: http://www.ti.com/lit/ml/mpqf130c/mpqf130c.pdf
footprint TI-RHB32-3450X3450TP_V (QFN, 32-Leads, Body 5x5mm, Pitch 0.5mm, Thermal Pad 3.45x3.45mm)
part A pins: 1 CH B1+ (in) "Noninverting Input Channel B1", 2 CH B1- (in) "Inverting Input Channel B1", 3 CH B0+ (in) "Noninverting Input Channel B0", 4 CH B0- (in) "Inverting Input Channel B0", 5 CH A1+ (in) "Noninverting Input Channel A1", 6 CH A1- (in) "Inverting Input Channel A1", 7 CH A0+ (in) "Noninverting Input Channel A0", 8 CH A0- (in) "Inverting Input Channel A0", 9 REFIN (in) "Reference Input", 10 REFOUT (out) "2.5V Reference Output", 12 AGND (power) "Analog Ground. Connect directly to digital ground (pin 1).", 13 VA+ (power) "Analog Power Supply, +5VDC. Decouple to analog ground with a 0.1uF ceramic capacitor and a 0.1uF tantalum capacitor.", 16 M1 (in) "Selects between the Serial Outputs. When M1 is LOW, both Serial Output A and Serial Output B are selected for data transfer. When M1 is HIGH, Serial output A is configured for both Channel A data and Channel B data; Serial (See Datasheet)", 17 M0 (in) "Selects between two-channel and four-channel operation. When M0 is LOW, two-channel operation is selected and operates in conjunction with A0. When A0 is HIGH, Channel A1 and Channel B1 are being converted. When A0 is LOW, (See Datasheet)", 18 A0 (in) "A0 operates in conjunction with M0. With M0 LOW and A0 HIGH, Channel A1 and Channel B1 are converted. With M0 LOW and A0 LOW, Channel A0 and Channel B0 are converted.", 19 CONVST (in) "Convert Start. When CONVST switches from LOW to HIGH, the device switches from the sample to hold mode, independent of the status of the external clock.", 20 RD (in) "Synchronization Pulse for the Serial Output.", 21 ~{CS} (in) "Chip Select. When LOW, the Serial Output A and Serial Output B outputs are active; when HIGH, the serial outputs are tri-stated.", 22 CLOCK (in) "An external CMOS-compatible clock can be applied to the CLOCK input to synchronize the conversion process to an external source. The CLOCK pin controls the sampling rate by the equation: CLOCK = 16 • fSAMPLE.", 23 BUSY (out) "BUSY goes HIGH during a conversion and returns LOW after the third LSB has been transmitted on either the Serial A or Serial B output pin.", 24 SERIAL DATA B (hiz) "The Serial Output data word is comprised of channel information and 12 bits of data. In operation, data is valid on the falling edge of DCLOCK for 16 edges after the rising edge of RD.", 25 SERIAL DATA A (hiz) "The Serial Output data word is comprised of channel information and 12 bits of data. In operation, data is valid on the falling edge of DCLOCK for 16 edges after the rising edge of RD. When M1 is HIGH, both Channel A data (See Datasheet)", 27 VD+ (power) "Digital Power Supply, +5VDC. Connect directly to pin 13. Must be =< +VA.", 28 DGND (power) "Digital I/O Ground. Connect directly to analog ground (pin 12).", 33 EP (power) "The thermal pad is internally connected to the substrate. This pad can be connected to the analog ground or left floating. Keep the thermal pad separate from the digital ground, if possible."
part B pins: 11 NC "Not Connected", 14 NC "Not Connected", 15 NC "Not Connected", 26 NC "Not Connected", 29 NC "Not Connected", 30 NC "Not Connected", 31 NC "Not Connected", 32 NC "Not Connected"

## ADS7861IRHBRG4
designator U?
Dual, 500 kHz, 12-Bit, 4 Channel, Simultaneous Sampling ADC, -40 to 125 degC, 32-pin QFN (RHB32), Green (RoHS & no Sb/Br); Manufacturer: Texas Instruments; PartNumber: ADS7861IRHBRG4; # Input Channels: 4; Analog Voltage AV/DD(Max)(V): 5.25; Analog Voltage AV/DD(Min)(V): 4.75; Architecture: SAR; INL(Max)(+/-LSB): 2; Interface: Serial SPI; Resolution(Bits): 12; Sample Rate (max)(SPS): 500k; SFDR(dB): 71; SINAD(dB): 70; SubFamily: Precision ADC (<=10MSPS); DatasheetVersion: SBAS110D; PackageVersion: 4204326/D, 06/2011; PackageReference: RHB32-3450X3450TP; PackageDescription: 32-Pin Plastic Flat Pack, Body 5 x 5 mm, Pitch 0.5 mm; Supplier 1: Digi-Key; Supplier Part Number 1: ADS7861EB/2K5-ND; Supplier 2: Newark; Supplier Part Number 2: 74C7191; Supplier 3: Mouser; Supplier Part Number 3: 595-ADS7861EB/2K5; Digital Supply(Max)(V): 5.25; Digital Supply(Min)(V): 4.75; Eco-Plan: Green (RoHS & no Sb/Br); Mounting Technology: Surface Mount; Code_JEDEC: MO-220; ComponentLink1Description: Manufacturer URL; ComponentLink1URL: http://www.ti.com/; ComponentLink2Description: Datasheet; ComponentLink2URL: http://www.ti.com/general/docs/lit/getliterature.tsp?genericPartNumber=ADS7861&fileType=pdf; ComponentLink3Description: Package Specification; ComponentLink3URL: http://www.ti.com/lit/ml/mpqf130c/mpqf130c.pdf
footprint TI-RHB32-3450X3450TP_V (QFN, 32-Leads, Body 5x5mm, Pitch 0.5mm, Thermal Pad 3.45x3.45mm)
part A pins: 1 CH B1+ (in) "Noninverting Input Channel B1", 2 CH B1- (in) "Inverting Input Channel B1", 3 CH B0+ (in) "Noninverting Input Channel B0", 4 CH B0- (in) "Inverting Input Channel B0", 5 CH A1+ (in) "Noninverting Input Channel A1", 6 CH A1- (in) "Inverting Input Channel A1", 7 CH A0+ (in) "Noninverting Input Channel A0", 8 CH A0- (in) "Inverting Input Channel A0", 9 REFIN (in) "Reference Input", 10 REFOUT (out) "2.5V Reference Output", 12 AGND (power) "Analog Ground. Connect directly to digital ground (pin 1).", 13 VA+ (power) "Analog Power Supply, +5VDC. Decouple to analog ground with a 0.1uF ceramic capacitor and a 0.1uF tantalum capacitor.", 16 M1 (in) "Selects between the Serial Outputs. When M1 is LOW, both Serial Output A and Serial Output B are selected for data transfer. When M1 is HIGH, Serial output A is configured for both Channel A data and Channel B data; Serial (See Datasheet)", 17 M0 (in) "Selects between two-channel and four-channel operation. When M0 is LOW, two-channel operation is selected and operates in conjunction with A0. When A0 is HIGH, Channel A1 and Channel B1 are being converted. When A0 is LOW, (See Datasheet)", 18 A0 (in) "A0 operates in conjunction with M0. With M0 LOW and A0 HIGH, Channel A1 and Channel B1 are converted. With M0 LOW and A0 LOW, Channel A0 and Channel B0 are converted.", 19 CONVST (in) "Convert Start. When CONVST switches from LOW to HIGH, the device switches from the sample to hold mode, independent of the status of the external clock.", 20 RD (in) "Synchronization Pulse for the Serial Output.", 21 ~{CS} (in) "Chip Select. When LOW, the Serial Output A and Serial Output B outputs are active; when HIGH, the serial outputs are tri-stated.", 22 CLOCK (in) "An external CMOS-compatible clock can be applied to the CLOCK input to synchronize the conversion process to an external source. The CLOCK pin controls the sampling rate by the equation: CLOCK = 16 • fSAMPLE.", 23 BUSY (out) "BUSY goes HIGH during a conversion and returns LOW after the third LSB has been transmitted on either the Serial A or Serial B output pin.", 24 SERIAL DATA B (hiz) "The Serial Output data word is comprised of channel information and 12 bits of data. In operation, data is valid on the falling edge of DCLOCK for 16 edges after the rising edge of RD.", 25 SERIAL DATA A (hiz) "The Serial Output data word is comprised of channel information and 12 bits of data. In operation, data is valid on the falling edge of DCLOCK for 16 edges after the rising edge of RD. When M1 is HIGH, both Channel A data (See Datasheet)", 27 VD+ (power) "Digital Power Supply, +5VDC. Connect directly to pin 13. Must be =< +VA.", 28 DGND (power) "Digital I/O Ground. Connect directly to analog ground (pin 12).", 33 EP (power) "The thermal pad is internally connected to the substrate. This pad can be connected to the analog ground or left floating. Keep the thermal pad separate from the digital ground, if possible."
part B pins: 11 NC "Not Connected", 14 NC "Not Connected", 15 NC "Not Connected", 26 NC "Not Connected", 29 NC "Not Connected", 30 NC "Not Connected", 31 NC "Not Connected", 32 NC "Not Connected"